# Altium schematic symbol library SM05B-SRSS-TB(LF)(SN).SchLib: 1 symbol
Pins are listed as number, name and electrical type; pins without a type are passive.

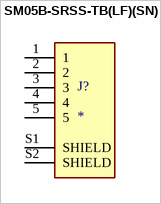
[diagram p0: symbol SM05B-SRSS-TB(LF)(SN)]

## SM05B-SRSS-TB(LF)(SN)
designator J?
Connector Header Surface Mount, Right Angle 5 position 0.039 (1.00mm); MF: JST Sales; MP: SM05B-SRSS-TB(LF)(SN); Price: None; Value: *; Availability: In Stock; Check_prices: https://www.snapeda.com/parts/SM05B-SRSS-TB(LF)(SN)/JST+Sales+America+Inc./view-part/?ref=eda; SnapEDA_Link: https://www.snapeda.com/parts/SM05B-SRSS-TB(LF)(SN)/JST+Sales+America+Inc./view-part/?ref=snap; Package: None
footprint JST_SM05B-SRSS-TB(LF)(SN)
pins: 1, 2, 3, 4, 5, S1 SHIELD, S2 SHIELD